# Altium schematic symbol library PADS.SchLib: 10 symbols
Pins are listed as number, name and electrical type; pins without a type are passive.

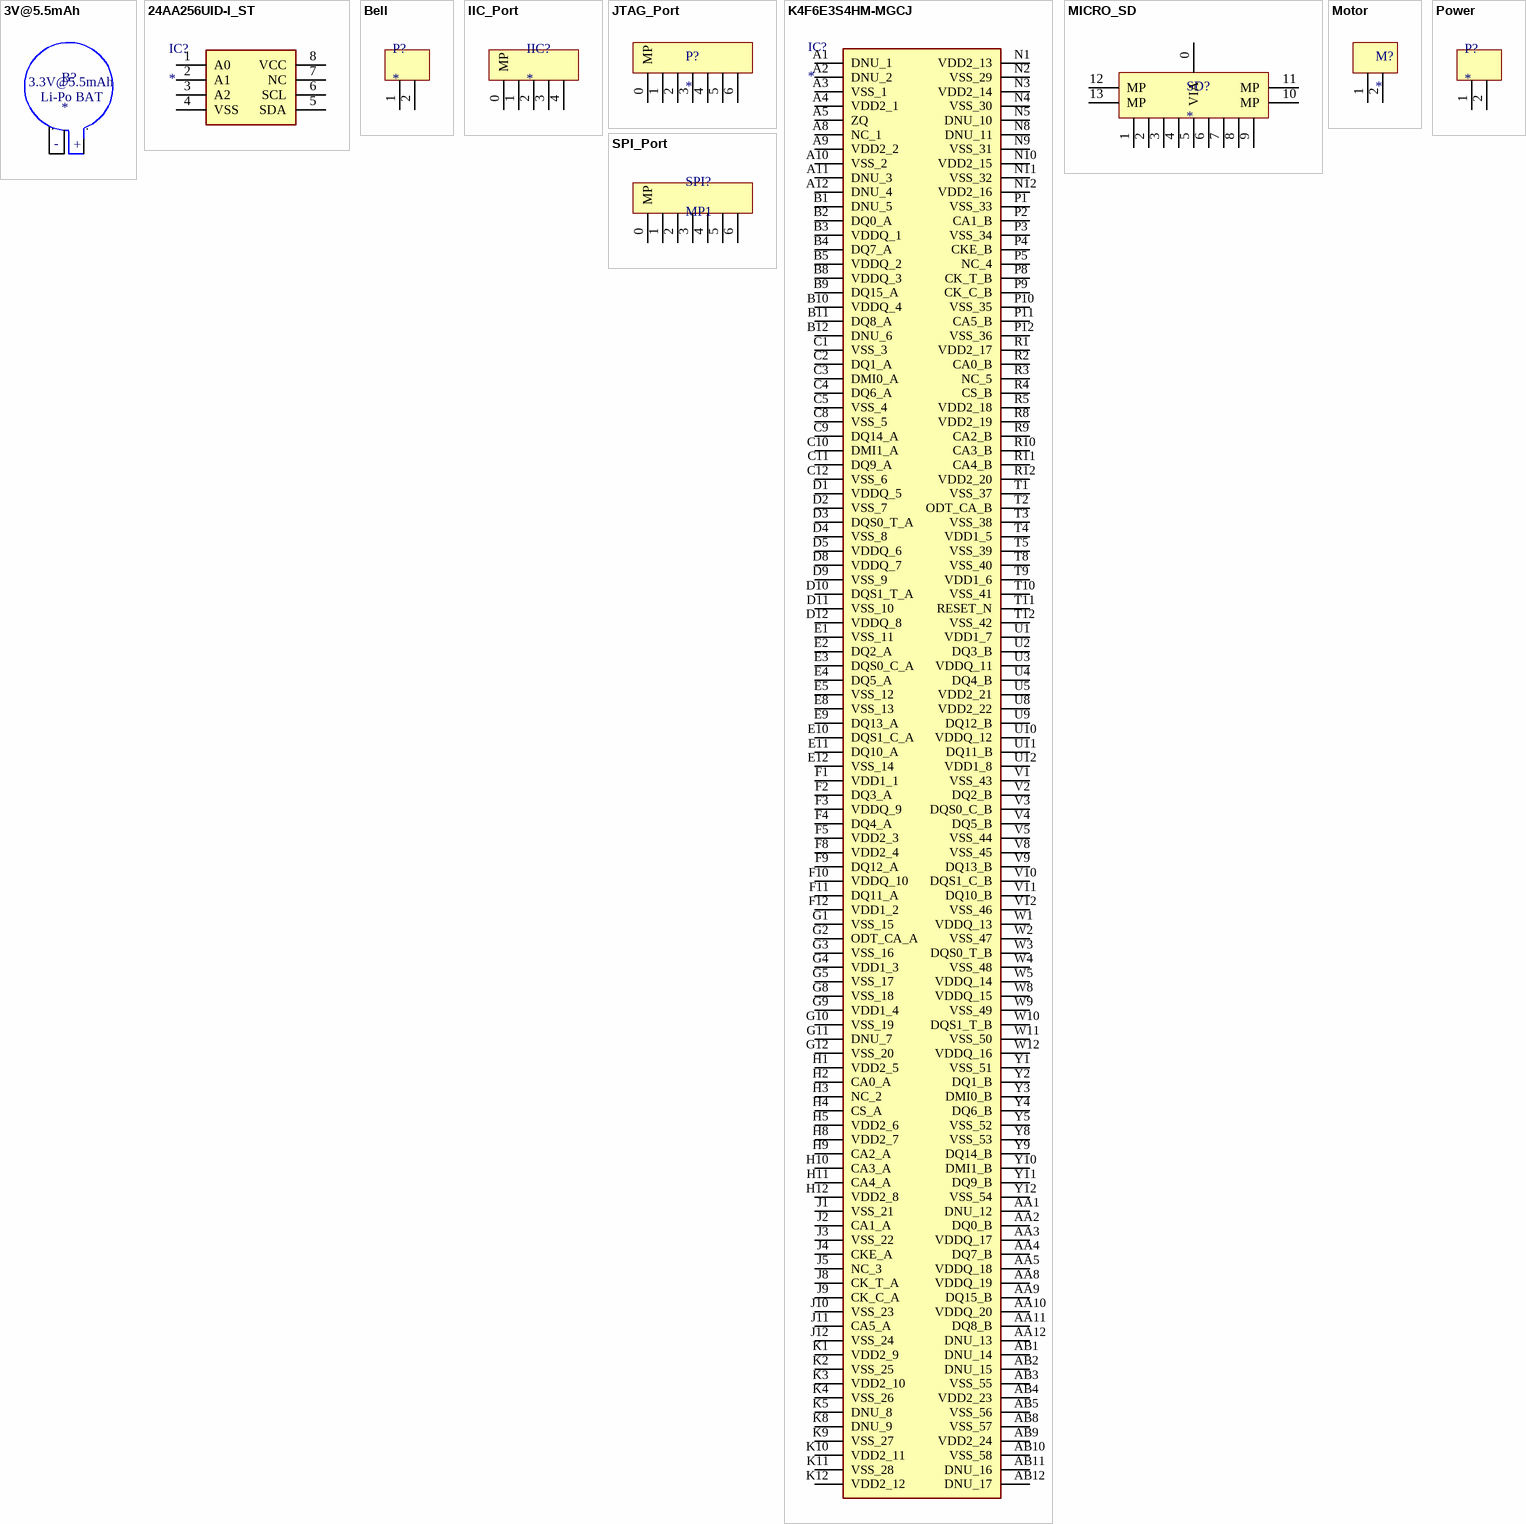
[diagram p0: symbols 3V@5.5mAh to SPI_Port]

## 3V@5.5mAh
designator B?
Battery
footprint 3V@2.3mAh
pins: 1 . (power), 2 . (power)
text: 3.3V@5.5mAh; Li-Po BAT; -; +

## 24AA256UID-I_ST
designator IC?
Integrated Circuit; Manufacturer_Name: Microchip; Manufacturer_Part_Number: 24AA256UID-I/ST; Allied_Number: 70470034; Datasheet Link: http://docs-emea.rs-online.com/webdocs/12de/0900766b812dec89.pdf; Height: 1.2mm; Mouser Part Number: 579-24AA256UID-I/ST; Mouser Price/Stock: https://www.mouser.com/Search/Refine.aspx?Keyword=579-24AA256UID-I%2FST; RS Part Number: 8103902; RS Price/Stock: https://uk.rs-online.com/web/p/products/8103902; Allied Price/Stock: https://www.alliedelec.com/microchip-technology-inc-24aa256uid-i-st/70470034/
footprint SOP65P640X120-8N
pins: 1 A0, 2 A1, 3 A2, 4 VSS, 5 SDA, 6 SCL, 7 NC, 8 VCC

## Bell
designator P?
None
footprint PADS_2
pins: 1, 2

## IIC_Port
designator IIC?
None
footprint GX1.25_4p
pins: 0 MP, 1, 2, 3, 4

## JTAG_Port
designator P?
None
footprint GX1.25_6p
pins: 0 MP, 1, 2, 3, 4, 5, 6

## K4F6E3S4HM-MGCJ
designator IC?
Integrated Circuit; Manufacturer_Name: Samsung; Manufacturer_Part_Number: K4F6E3S4HM-MGCJ; Description: 16Gb LPDDR4 SDRAM 200FBGA; Datasheet Link: https://static6.arrow.com/aropdfconversion/1c2c2d924dafbdcc4bed550b169d2aeac4e8cfe7/k4f6e3s4hm-mgcj.pdf; Height: 1mm
footprint BGA200C65P12X22_1000X1500X100
pins: A1 DNU_1, A2 DNU_2, A3 VSS_1, A4 VDD2_1, A5 ZQ, A8 NC_1, A9 VDD2_2, A10 VSS_2, A11 DNU_3, A12 DNU_4, AA1 DNU_12, AA2 DQ0_B, AA3 VDDQ_17, AA4 DQ7_B, AA5 VDDQ_18, AA8 VDDQ_19, AA9 DQ15_B, AA10 VDDQ_20, AA11 DQ8_B, AA12 DNU_13, AB1 DNU_14, AB2 DNU_15, AB3 VSS_55, AB4 VDD2_23, AB5 VSS_56, AB8 VSS_57, AB9 VDD2_24, AB10 VSS_58, AB11 DNU_16, AB12 DNU_17, B1 DNU_5, B2 DQ0_A, B3 VDDQ_1, B4 DQ7_A, B5 VDDQ_2, B8 VDDQ_3, B9 DQ15_A, B10 VDDQ_4, B11 DQ8_A, B12 DNU_6, C1 VSS_3, C2 DQ1_A, C3 DMI0_A, C4 DQ6_A, C5 VSS_4, C8 VSS_5, C9 DQ14_A, C10 DMI1_A, C11 DQ9_A, C12 VSS_6, D1 VDDQ_5, D2 VSS_7, D3 DQS0_T_A, D4 VSS_8, D5 VDDQ_6, D8 VDDQ_7, D9 VSS_9, D10 DQS1_T_A, D11 VSS_10, D12 VDDQ_8, E1 VSS_11, E2 DQ2_A, E3 DQS0_C_A, E4 DQ5_A, E5 VSS_12, E8 VSS_13, E9 DQ13_A, E10 DQS1_C_A, E11 DQ10_A, E12 VSS_14, F1 VDD1_1, F2 DQ3_A, F3 VDDQ_9, F4 DQ4_A, F5 VDD2_3, F8 VDD2_4, F9 DQ12_A, F10 VDDQ_10, F11 DQ11_A, F12 VDD1_2, G1 VSS_15, G2 ODT_CA_A, G3 VSS_16, G4 VDD1_3, G5 VSS_17, G8 VSS_18, G9 VDD1_4, G10 VSS_19, G11 DNU_7, G12 VSS_20, H1 VDD2_5, H2 CA0_A, H3 NC_2, H4 CS_A, H5 VDD2_6, H8 VDD2_7, H9 CA2_A, H10 CA3_A, H11 CA4_A, H12 VDD2_8, J1 VSS_21, J2 CA1_A, J3 VSS_22, J4 CKE_A, J5 NC_3, J8 CK_T_A, J9 CK_C_A, J10 VSS_23, J11 CA5_A, J12 VSS_24, K1 VDD2_9, K2 VSS_25, K3 VDD2_10, K4 VSS_26, K5 DNU_8, K8 DNU_9, K9 VSS_27, K10 VDD2_11, K11 VSS_28, K12 VDD2_12, N1 VDD2_13, N2 VSS_29, N3 VDD2_14, N4 VSS_30, N5 DNU_10, N8 DNU_11, N9 VSS_31, N10 VDD2_15, N11 VSS_32, N12 VDD2_16, P1 VSS_33, P2 CA1_B, P3 VSS_34, P4 CKE_B, P5 NC_4, P8 CK_T_B, P9 CK_C_B, P10 VSS_35, P11 CA5_B, P12 VSS_36, R1 VDD2_17, R2 CA0_B, R3 NC_5, R4 CS_B, R5 VDD2_18, R8 VDD2_19, R9 CA2_B, R10 CA3_B, R11 CA4_B, R12 VDD2_20, T1 VSS_37, T2 ODT_CA_B, T3 VSS_38, T4 VDD1_5, T5 VSS_39, T8 VSS_40, T9 VDD1_6, T10 VSS_41, T11 RESET_N, T12 VSS_42, U1 VDD1_7, U2 DQ3_B, U3 VDDQ_11, U4 DQ4_B, U5 VDD2_21, U8 VDD2_22, U9 DQ12_B, U10 VDDQ_12, U11 DQ11_B, U12 VDD1_8, V1 VSS_43, V2 DQ2_B, V3 DQS0_C_B, V4 DQ5_B, V5 VSS_44, V8 VSS_45, V9 DQ13_B, V10 DQS1_C_B, V11 DQ10_B, V12 VSS_46, W1 VDDQ_13, W2 VSS_47, W3 DQS0_T_B, W4 VSS_48, W5 VDDQ_14, W8 VDDQ_15, W9 VSS_49, W10 DQS1_T_B, W11 VSS_50, W12 VDDQ_16, Y1 VSS_51, Y2 DQ1_B, Y3 DMI0_B, Y4 DQ6_B, Y5 VSS_52, Y8 VSS_53, Y9 DQ14_B, Y10 DMI1_B, Y11 DQ9_B, Y12 VSS_54

## MICRO_SD
designator SD?
None
footprint MICRO_SD
pins: 0 VIA, 1, 2, 3, 4, 5, 6, 7, 8, 9, 10 MP, 11 MP, 12 MP, 13 MP

## Motor
designator M?
None
footprint fxc-110725
pins: 1, 2

## Power
designator P?
None
footprint PADS_2
pins: 1, 2

## SPI_Port
designator SPI?, comment MP1
None
footprint GX1.25_6p
pins: 0 MP, 1, 2, 3, 4, 5, 6